# Altium footprint library PC817XNNSZ1B.PcbLib: 1 footprints
Each footprint in its own frame and in the unit in brackets; x right, y up, seen from the top. Pads: shape width x height; smd on the part's side, far side on the other; paste and mask are expansions set on the pad; w line width, h text height; cw(c..) or ccw(c..) is an arc to the next point about the centre after c.
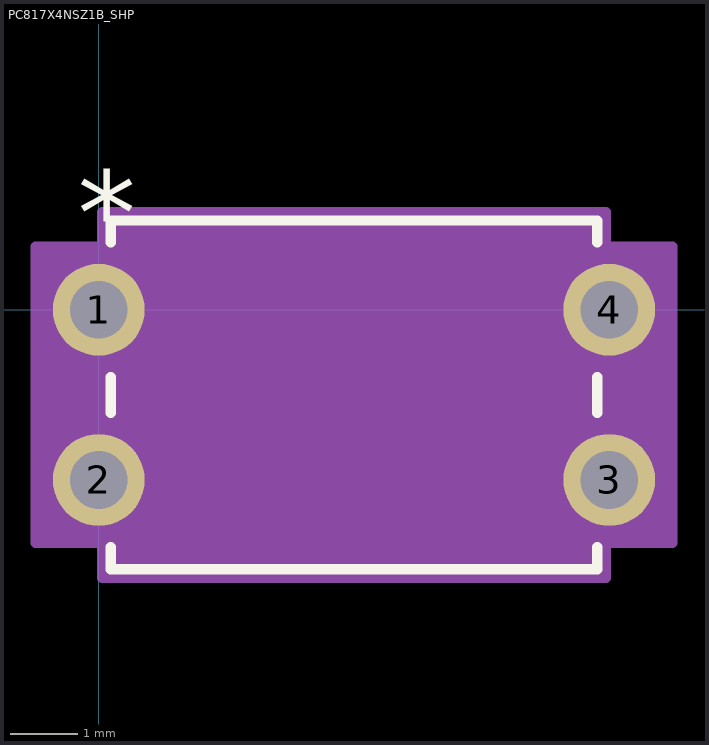
[diagram p0: the footprint, top view; thin cyan lines are the x and y axes]

## PC817X4NSZ1B_SHP [mil]
pads (4):
  round 54 / inner round 60 / far side round 54 hole 34 paste-27 mask+0: 1(0,0) 2(0,-100) 3(300,-100) 4(300,0)
Top Overlay:
  lines w6: 7,-139.48 7,-152.5 293,-152.5 293,-139.48 ; 7,-60.52 7,-39.48 ; 7,39.48 7,52.5 293,52.5 293,39.48 ; 293,-60.52 293,-39.48
  text "*" at -12.5,32 h50
Mechanical 13:
  lines w0: 138,47.5 ccw(c150,47.5) 162,47.5
  lines w1: -17,-117 -17,-83 12,-83 12,-117 -17,-117 ; -17,-17 -17,17 12,17 12,-17 -17,-17 ; 12,-147.5 288,-147.5 288,47.5 12,47.5 12,-147.5 ; 288,-117 288,-83 317,-83 317,-117 288,-117 ; 288,-17 288,17 317,17 317,-17 288,-17
  text "*" at 9.5,-25 h50
Mechanical 15:
  region: 298,-137 337,-137 337,37 298,37 298,57.5 2,57.5 2,37 -37,37 -37,-137 2,-137 2,-157.5 298,-157.5
  lines w6: -37,-137 -37,37 2,37 2,57.5 298,57.5 298,37 337,37 337,-137 298,-137 298,-157.5 2,-157.5 2,-137 -37,-137
3D body: height 184.09, standoff -100, extent -5,-147.48 315,47.48